# Altium schematic symbol library MGJ2D121505SC.SchLib: 1 symbol
Pins are listed as number, name and electrical type; pins without a type are passive.

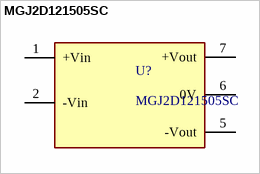
[diagram p0: symbol MGJ2D121505SC]

## MGJ2D121505SC
designator U?
footprint FP-MGJ2D121505SC-MFG
pins: 1 +Vin (power), 2 -Vin (power), 5 -Vout, 6 0V (power), 7 +Vout